# Altium schematic symbol library Molex FFC - FPC Connectors (Through-Hole).SchLib: 219 symbols (part 3 of 7)
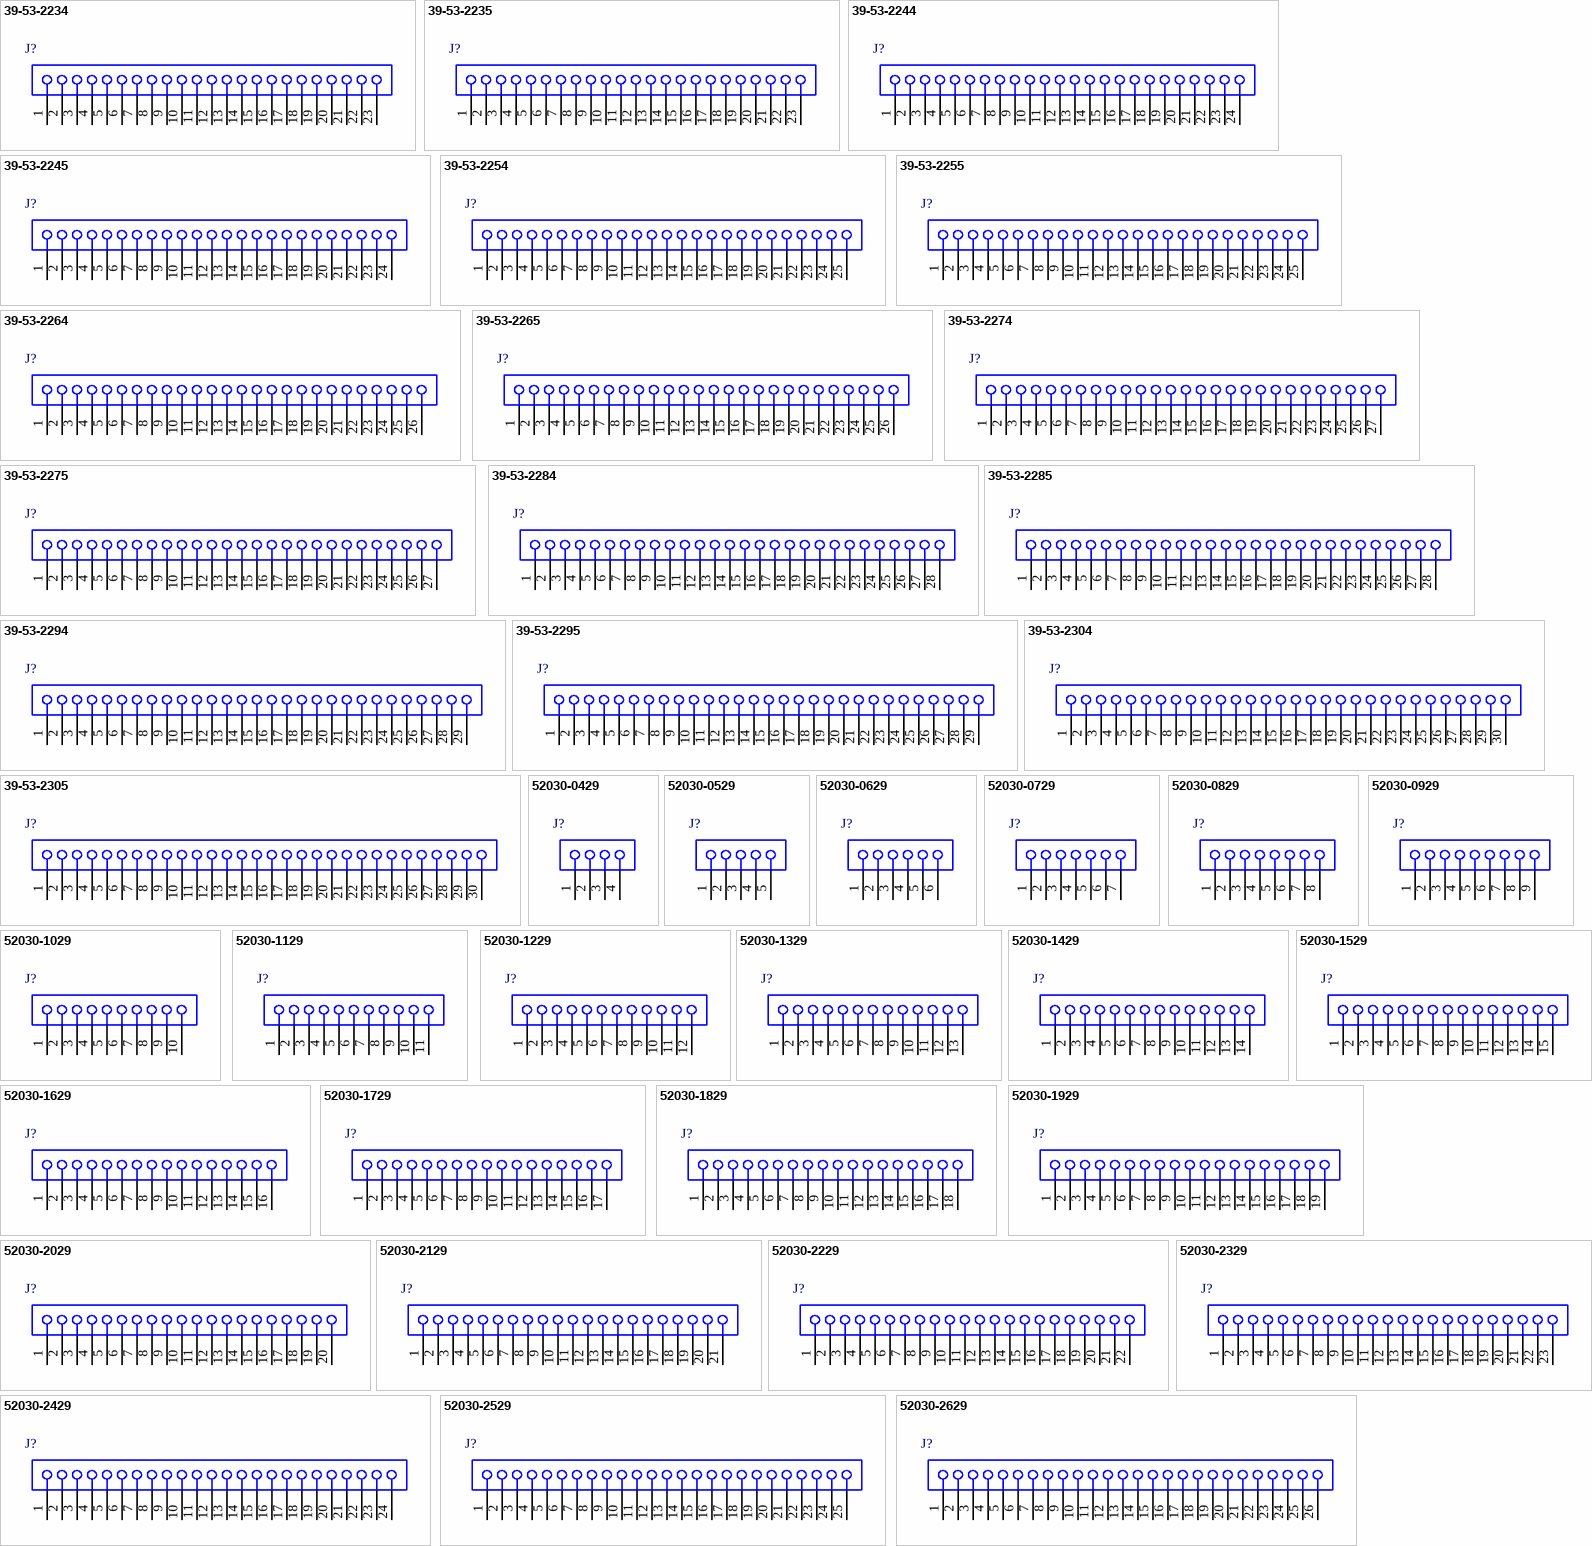
[diagram p7: symbols 39-53-2234 to 52030-2629]

## 52030-1929
designator J?
1.0 mm Pitch FPC Connector, 5.2 mm Mated Height, Vertical, ZIF, Through Hole, 19 Circuits, -20 to 80 degC, ELV and RoHS Compliant, Tray; Manufacturer: Molex; PartNumber: 52030-1929; Circuits (Loaded): 19; Current (Max per Contact): 1A; Durability (mating cycles max): 30; Mated Height: 5.20mm; Material - Metal: Phosphor Bronze; Material - Plating Mating: Tin-Bismuth; PCB Retention: Yes; Pitch - Mating Interface: 1.00mm; Polarized to PCB: No; Voltage (Max): 50V; PackageVersion: Rev. B, 10/2007; PackageReference: 52030-1929; PackageDescription: 19-Lead FPC Connector, Pitch 1.0 mm; Contact Position: N/A; Entry Angle: Vertical; Material - Plating Termination: Tin-Bismuth; Number of Rows: 1; Orientation: Vertical; Packing: Tray; RoHS: TRUE; Stackable: No; Mounting Technology: Through Hole; ComponentLink1Description: Manufacturer URL; ComponentLink1URL: http://www.molex.com/molex/index.jsp; ComponentLink2Description: Datasheet; ComponentLink2URL: http://www.molex.com/webdocs/datasheets/pdf/en-us/0520301929_FFC_FPC_CONNECTORS.pdf; ComponentLink3Description: Package Specification; ComponentLink3URL: http://www.molex.com/pdm_docs/sd/520301929_sd.pdf
footprint MOLX-52030-1929 (FPC Connector, 19-Leads, Vertical, Pitch 1.0 mm, Mated Height 5.2 mm, Through Hole)
pins: 1, 2, 3, 4, 5, 6, 7, 8, 9, 10, 11, 12, 13, 14, 15, 16, 17, 18, 19

## 52030-2029
designator J?
1.0 mm Pitch FPC Connector, 5.2 mm Mated Height, Vertical, ZIF, Through Hole, 20 Circuits, -20 to 80 degC, ELV and RoHS Compliant, Tray; Manufacturer: Molex; PartNumber: 52030-2029; Circuits (Loaded): 20; Current (Max per Contact): 1A; Durability (mating cycles max): 30; Mated Height: 5.20mm; Material - Metal: Phosphor Bronze; Material - Plating Mating: Tin-Bismuth; PCB Retention: Yes; Pitch - Mating Interface: 1.00mm; Polarized to PCB: No; Voltage (Max): 50V; PackageVersion: Rev. B, 10/2007; PackageReference: 52030-2029; PackageDescription: 20-Lead FPC Connector, Pitch 1.0 mm; Contact Position: N/A; Entry Angle: Vertical; Material - Plating Termination: Tin-Bismuth; Number of Rows: 1; Orientation: Vertical; Packing: Tray; RoHS: TRUE; Stackable: No; Mounting Technology: Through Hole; ComponentLink1Description: Manufacturer URL; ComponentLink1URL: http://www.molex.com/molex/index.jsp; ComponentLink2Description: Datasheet; ComponentLink2URL: http://www.molex.com/webdocs/datasheets/pdf/en-us/0520302029_FFC_FPC_CONNECTORS.pdf; ComponentLink3Description: Package Specification; ComponentLink3URL: http://www.molex.com/pdm_docs/sd/520302029_sd.pdf
footprint MOLX-52030-2029 (FPC Connector, 20-Leads, Vertical, Pitch 1.0 mm, Mated Height 5.2 mm, Through Hole)
pins: 1, 2, 3, 4, 5, 6, 7, 8, 9, 10, 11, 12, 13, 14, 15, 16, 17, 18, 19, 20

## 52030-2129
designator J?
1.0 mm Pitch FPC Connector, 5.2 mm Mated Height, Vertical, ZIF, Through Hole, 21 Circuits, -20 to 80 degC, ELV and RoHS Compliant, Tray; Manufacturer: Molex; PartNumber: 52030-2129; Circuits (Loaded): 21; Current (Max per Contact): 1A; Durability (mating cycles max): 30; Mated Height: 5.20mm; Material - Metal: Phosphor Bronze; Material - Plating Mating: Tin-Bismuth; PCB Retention: Yes; Pitch - Mating Interface: 1.00mm; Polarized to PCB: No; Voltage (Max): 50V; PackageVersion: Rev. B, 10/2007; PackageReference: 52030-2129; PackageDescription: 21-Lead FPC Connector, Pitch 1.0 mm; Contact Position: N/A; Entry Angle: Vertical; Material - Plating Termination: Tin-Bismuth; Number of Rows: 1; Orientation: Vertical; Packing: Tray; RoHS: TRUE; Stackable: No; Mounting Technology: Through Hole; ComponentLink1Description: Manufacturer URL; ComponentLink1URL: http://www.molex.com/molex/index.jsp; ComponentLink2Description: Datasheet; ComponentLink2URL: http://www.molex.com/webdocs/datasheets/pdf/en-us/0520302129_FFC_FPC_CONNECTORS.pdf; ComponentLink3Description: Package Specification; ComponentLink3URL: http://www.molex.com/pdm_docs/sd/520302129_sd.pdf
footprint MOLX-52030-2129 (FPC Connector, 21-Leads, Vertical, Pitch 1.0 mm, Mated Height 5.2 mm, Through Hole)
pins: 1, 2, 3, 4, 5, 6, 7, 8, 9, 10, 11, 12, 13, 14, 15, 16, 17, 18, 19, 20, 21

## 52030-2229
designator J?
1.0 mm Pitch FPC Connector, 5.2 mm Mated Height, Vertical, ZIF, Through Hole, 22 Circuits, -20 to 80 degC, ELV and RoHS Compliant, Tray; Manufacturer: Molex; PartNumber: 52030-2229; Circuits (Loaded): 22; Current (Max per Contact): 1A; Durability (mating cycles max): 30; Mated Height: 5.20mm; Material - Metal: Phosphor Bronze; Material - Plating Mating: Tin-Bismuth; PCB Retention: Yes; Pitch - Mating Interface: 1.00mm; Polarized to PCB: No; Voltage (Max): 50V; PackageVersion: Rev. B, 10/2007; PackageReference: 52030-2229; PackageDescription: 22-Lead FPC Connector, Pitch 1.0 mm; Contact Position: N/A; Entry Angle: Vertical; Material - Plating Termination: Tin-Bismuth; Number of Rows: 1; Orientation: Vertical; Packing: Tray; RoHS: TRUE; Stackable: No; Mounting Technology: Through Hole; ComponentLink1Description: Manufacturer URL; ComponentLink1URL: http://www.molex.com/molex/index.jsp; ComponentLink2Description: Datasheet; ComponentLink2URL: http://www.molex.com/webdocs/datasheets/pdf/en-us/0520302229_FFC_FPC_CONNECTORS.pdf; ComponentLink3Description: Package Specification; ComponentLink3URL: http://www.molex.com/pdm_docs/sd/520302229_sd.pdf
footprint MOLX-52030-2229 (FPC Connector, 22-Leads, Vertical, Pitch 1.0 mm, Mated Height 5.2 mm, Through Hole)
pins: 1, 2, 3, 4, 5, 6, 7, 8, 9, 10, 11, 12, 13, 14, 15, 16, 17, 18, 19, 20, 21, 22

## 52030-2329
designator J?
1.0 mm Pitch FPC Connector, 5.2 mm Mated Height, Vertical, ZIF, Through Hole, 23 Circuits, -20 to 80 degC, ELV and RoHS Compliant, Tray; Manufacturer: Molex; PartNumber: 52030-2329; Circuits (Loaded): 23; Current (Max per Contact): 1A; Durability (mating cycles max): 30; Mated Height: 5.20mm; Material - Metal: Phosphor Bronze; Material - Plating Mating: Tin-Bismuth; PCB Retention: Yes; Pitch - Mating Interface: 1.00mm; Polarized to PCB: No; Voltage (Max): 50V; PackageVersion: Rev. B, 10/2007; PackageReference: 52030-2329; PackageDescription: 23-Lead FPC Connector, Pitch 1.0 mm; Contact Position: N/A; Entry Angle: Vertical; Material - Plating Termination: Tin-Bismuth; Number of Rows: 1; Orientation: Vertical; Packing: Tray; RoHS: TRUE; Stackable: No; Mounting Technology: Through Hole; ComponentLink1Description: Manufacturer URL; ComponentLink1URL: http://www.molex.com/molex/index.jsp; ComponentLink2Description: Datasheet; ComponentLink2URL: http://www.molex.com/webdocs/datasheets/pdf/en-us/0520302329_FFC_FPC_CONNECTORS.pdf; ComponentLink3Description: Package Specification; ComponentLink3URL: http://www.molex.com/pdm_docs/sd/520302329_sd.pdf
footprint MOLX-52030-2329 (FPC Connector, 23-Leads, Vertical, Pitch 1.0 mm, Mated Height 5.2 mm, Through Hole)
pins: 1, 2, 3, 4, 5, 6, 7, 8, 9, 10, 11, 12, 13, 14, 15, 16, 17, 18, 19, 20, 21, 22, 23

## 52030-2429
designator J?
1.0 mm Pitch FPC Connector, 5.2 mm Mated Height, Vertical, ZIF, Through Hole, 24 Circuits, -20 to 80 degC, ELV and RoHS Compliant, Tray; Manufacturer: Molex; PartNumber: 52030-2429; Circuits (Loaded): 24; Current (Max per Contact): 1A; Durability (mating cycles max): 30; Mated Height: 5.20mm; Material - Metal: Phosphor Bronze; Material - Plating Mating: Tin-Bismuth; PCB Retention: Yes; Pitch - Mating Interface: 1.00mm; Polarized to PCB: No; Voltage (Max): 50V; PackageVersion: Rev. B, 10/2007; PackageReference: 52030-2429; PackageDescription: 24-Lead FPC Connector, Pitch 1.0 mm; Contact Position: N/A; Entry Angle: Vertical; Material - Plating Termination: Tin-Bismuth; Number of Rows: 1; Orientation: Vertical; Packing: Tray; RoHS: TRUE; Stackable: No; Mounting Technology: Through Hole; ComponentLink1Description: Manufacturer URL; ComponentLink1URL: http://www.molex.com/molex/index.jsp; ComponentLink2Description: Datasheet; ComponentLink2URL: http://www.molex.com/webdocs/datasheets/pdf/en-us/0520302429_FFC_FPC_CONNECTORS.pdf; ComponentLink3Description: Package Specification; ComponentLink3URL: http://www.molex.com/pdm_docs/sd/520302429_sd.pdf
footprint MOLX-52030-2429 (FPC Connector, 24-Leads, Vertical, Pitch 1.0 mm, Mated Height 5.2 mm, Through Hole)
pins: 1, 2, 3, 4, 5, 6, 7, 8, 9, 10, 11, 12, 13, 14, 15, 16, 17, 18, 19, 20, 21, 22, 23, 24

## 52030-2529
designator J?
1.0 mm Pitch FPC Connector, 5.2 mm Mated Height, Vertical, ZIF, Through Hole, 25 Circuits, -20 to 80 degC, ELV and RoHS Compliant, Tray; Manufacturer: Molex; PartNumber: 52030-2529; Circuits (Loaded): 25; Current (Max per Contact): 1A; Durability (mating cycles max): 30; Mated Height: 5.20mm; Material - Metal: Phosphor Bronze; Material - Plating Mating: Tin-Bismuth; PCB Retention: Yes; Pitch - Mating Interface: 1.00mm; Polarized to PCB: No; Voltage (Max): 50V; PackageVersion: Rev. B, 10/2007; PackageReference: 52030-2529; PackageDescription: 25-Lead FPC Connector, Pitch 1.0 mm; Contact Position: N/A; Entry Angle: Vertical; Material - Plating Termination: Tin-Bismuth; Number of Rows: 1; Orientation: Vertical; Packing: Tray; RoHS: TRUE; Stackable: No; Mounting Technology: Through Hole; ComponentLink1Description: Manufacturer URL; ComponentLink1URL: http://www.molex.com/molex/index.jsp; ComponentLink2Description: Datasheet; ComponentLink2URL: http://www.molex.com/webdocs/datasheets/pdf/en-us/0520302529_FFC_FPC_CONNECTORS.pdf; ComponentLink3Description: Package Specification; ComponentLink3URL: http://www.molex.com/pdm_docs/sd/520302529_sd.pdf
footprint MOLX-52030-2529 (FPC Connector, 25-Leads, Vertical, Pitch 1.0 mm, Mated Height 5.2 mm, Through Hole)
pins: 1, 2, 3, 4, 5, 6, 7, 8, 9, 10, 11, 12, 13, 14, 15, 16, 17, 18, 19, 20, 21, 22, 23, 24, 25

## 52030-2629
designator J?
1.0 mm Pitch FPC Connector, 5.2 mm Mated Height, Vertical, ZIF, Through Hole, 26 Circuits, -20 to 80 degC, ELV and RoHS Compliant, Tray; Manufacturer: Molex; PartNumber: 52030-2629; Circuits (Loaded): 26; Current (Max per Contact): 1A; Durability (mating cycles max): 30; Mated Height: 5.20mm; Material - Metal: Phosphor Bronze; Material - Plating Mating: Tin-Bismuth; PCB Retention: Yes; Pitch - Mating Interface: 1.00mm; Polarized to PCB: No; Voltage (Max): 50V; PackageVersion: Rev. B, 10/2007; PackageReference: 52030-2629; PackageDescription: 26-Lead FPC Connector, Pitch 1.0 mm; Contact Position: N/A; Entry Angle: Vertical; Material - Plating Termination: Tin-Bismuth; Number of Rows: 1; Orientation: Vertical; Packing: Tray; RoHS: TRUE; Stackable: No; Mounting Technology: Through Hole; ComponentLink1Description: Manufacturer URL; ComponentLink1URL: http://www.molex.com/molex/index.jsp; ComponentLink2Description: Datasheet; ComponentLink2URL: http://www.molex.com/webdocs/datasheets/pdf/en-us/0520302629_FFC_FPC_CONNECTORS.pdf; ComponentLink3Description: Package Specification; ComponentLink3URL: http://www.molex.com/pdm_docs/sd/520302629_sd.pdf
footprint MOLX-52030-2629 (FPC Connector, 26-Leads, Vertical, Pitch 1.0 mm, Mated Height 5.2 mm, Through Hole)
pins: 1, 2, 3, 4, 5, 6, 7, 8, 9, 10, 11, 12, 13, 14, 15, 16, 17, 18, 19, 20, 21, 22, 23, 24, 25, 26

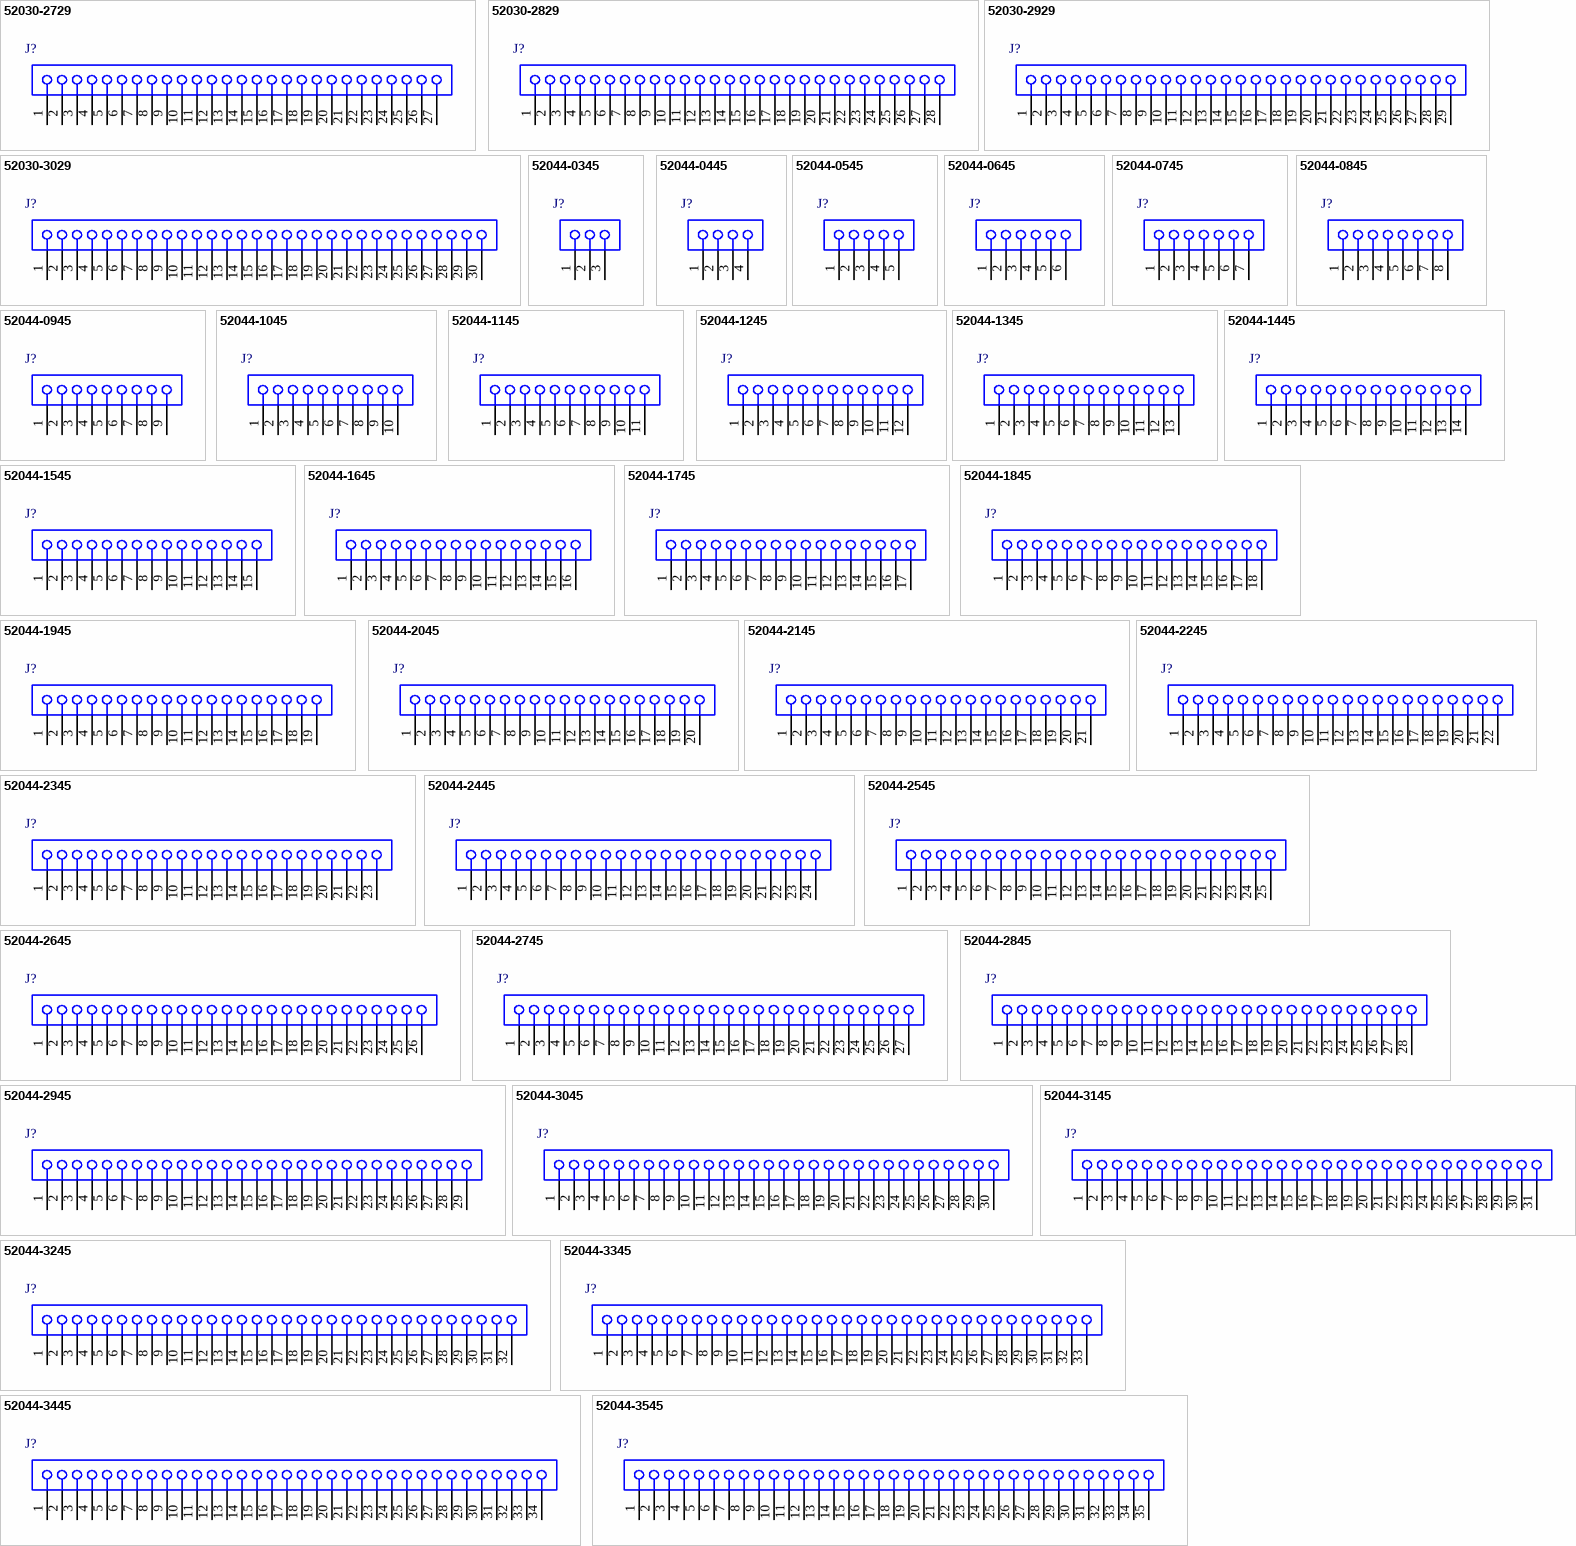
[diagram p2: symbols 52030-2729 to 52044-3545]

## 52030-2729
designator J?
1.0 mm Pitch FPC Connector, 5.2 mm Mated Height, Vertical, ZIF, Through Hole, 27 Circuits, -20 to 80 degC, ELV and RoHS Compliant, Tray; Manufacturer: Molex; PartNumber: 52030-2729; Circuits (Loaded): 27; Current (Max per Contact): 1A; Durability (mating cycles max): 30; Mated Height: 5.20mm; Material - Metal: Phosphor Bronze; Material - Plating Mating: Tin-Bismuth; PCB Retention: Yes; Pitch - Mating Interface: 1.00mm; Polarized to PCB: No; Voltage (Max): 50V; PackageVersion: Rev. B, 10/2007; PackageReference: 52030-2729; PackageDescription: 27-Lead FPC Connector, Pitch 1.0 mm; Contact Position: N/A; Entry Angle: Vertical; Material - Plating Termination: Tin-Bismuth; Number of Rows: 1; Orientation: Vertical; Packing: Tray; RoHS: TRUE; Stackable: No; Mounting Technology: Through Hole; ComponentLink1Description: Manufacturer URL; ComponentLink1URL: http://www.molex.com/molex/index.jsp; ComponentLink2Description: Datasheet; ComponentLink2URL: http://www.molex.com/webdocs/datasheets/pdf/en-us/0520302729_FFC_FPC_CONNECTORS.pdf; ComponentLink3Description: Package Specification; ComponentLink3URL: http://www.molex.com/pdm_docs/sd/520302729_sd.pdf
footprint MOLX-52030-2729 (FPC Connector, 27-Leads, Vertical, Pitch 1.0 mm, Mated Height 5.2 mm, Through Hole)
pins: 1, 2, 3, 4, 5, 6, 7, 8, 9, 10, 11, 12, 13, 14, 15, 16, 17, 18, 19, 20, 21, 22, 23, 24, 25, 26, 27

## 52030-2829
designator J?
1.0 mm Pitch FPC Connector, 5.2 mm Mated Height, Vertical, ZIF, Through Hole, 28 Circuits, -20 to 80 degC, ELV and RoHS Compliant, Tray; Manufacturer: Molex; PartNumber: 52030-2829; Circuits (Loaded): 28; Current (Max per Contact): 1A; Durability (mating cycles max): 30; Mated Height: 5.20mm; Material - Metal: Phosphor Bronze; Material - Plating Mating: Tin-Bismuth; PCB Retention: Yes; Pitch - Mating Interface: 1.00mm; Polarized to PCB: No; Voltage (Max): 50V; PackageVersion: Rev. B, 10/2007; PackageReference: 52030-2829; PackageDescription: 28-Lead FPC Connector, Pitch 1.0 mm; Contact Position: N/A; Entry Angle: Vertical; Material - Plating Termination: Tin-Bismuth; Number of Rows: 1; Orientation: Vertical; Packing: Tray; RoHS: TRUE; Stackable: No; Mounting Technology: Through Hole; ComponentLink1Description: Manufacturer URL; ComponentLink1URL: http://www.molex.com/molex/index.jsp; ComponentLink2Description: Datasheet; ComponentLink2URL: http://www.molex.com/webdocs/datasheets/pdf/en-us/0520302829_FFC_FPC_CONNECTORS.pdf; ComponentLink3Description: Package Specification; ComponentLink3URL: http://www.molex.com/pdm_docs/sd/520302829_sd.pdf
footprint MOLX-52030-2829 (FPC Connector, 28-Leads, Vertical, Pitch 1.0 mm, Mated Height 5.2 mm, Through Hole)
pins: 1, 2, 3, 4, 5, 6, 7, 8, 9, 10, 11, 12, 13, 14, 15, 16, 17, 18, 19, 20, 21, 22, 23, 24, 25, 26, 27, 28

## 52030-2929
designator J?
1.0 mm Pitch FPC Connector, 5.2 mm Mated Height, Vertical, ZIF, Through Hole, 29 Circuits, -20 to 80 degC, ELV and RoHS Compliant, Tray; Manufacturer: Molex; PartNumber: 52030-2929; Circuits (Loaded): 29; Current (Max per Contact): 1A; Durability (mating cycles max): 30; Mated Height: 5.20mm; Material - Metal: Phosphor Bronze; Material - Plating Mating: Tin-Bismuth; PCB Retention: Yes; Pitch - Mating Interface: 1.00mm; Polarized to PCB: No; Voltage (Max): 50V; PackageVersion: Rev. B, 10/2007; PackageReference: 52030-2929; PackageDescription: 29-Lead FPC Connector, Pitch 1.0 mm; Contact Position: N/A; Entry Angle: Vertical; Material - Plating Termination: Tin-Bismuth; Number of Rows: 1; Orientation: Vertical; Packing: Tray; RoHS: TRUE; Stackable: No; Mounting Technology: Through Hole; ComponentLink1Description: Manufacturer URL; ComponentLink1URL: http://www.molex.com/molex/index.jsp; ComponentLink2Description: Datasheet; ComponentLink2URL: http://www.molex.com/webdocs/datasheets/pdf/en-us/0520302929_FFC_FPC_CONNECTORS.pdf; ComponentLink3Description: Package Specification; ComponentLink3URL: http://www.molex.com/pdm_docs/sd/520302929_sd.pdf
footprint MOLX-52030-2929 (FPC Connector, 29-Leads, Vertical, Pitch 1.0 mm, Mated Height 5.2 mm, Through Hole)
pins: 1, 2, 3, 4, 5, 6, 7, 8, 9, 10, 11, 12, 13, 14, 15, 16, 17, 18, 19, 20, 21, 22, 23, 24, 25, 26, 27, 28, 29

## 52030-3029
designator J?
1.0 mm Pitch FPC Connector, 5.2 mm Mated Height, Vertical, ZIF, Through Hole, 30 Circuits, -20 to 80 degC, ELV and RoHS Compliant, Tray; Manufacturer: Molex; PartNumber: 52030-3029; Circuits (Loaded): 30; Current (Max per Contact): 1A; Mated Height: 5.20mm; Material - Metal: Phosphor Bronze; Material - Plating Mating: Tin-Bismuth; PCB Retention: Yes; Pitch - Mating Interface: 1.00mm; Polarized to PCB: No; Voltage (Max): 50V; PackageVersion: Rev. B, 10/2007; PackageReference: 52030-3029; PackageDescription: 30-Lead FPC Connector, Pitch 1.0 mm; Contact Position: N/A; Durability (mating cycles max): 30; Entry Angle: Vertical; Material - Plating Termination: Tin-Bismuth; Number of Rows: 1; Orientation: Vertical; Packing: Tray; RoHS: TRUE; Stackable: No; Mounting Technology: Through Hole; ComponentLink1Description: Manufacturer URL; ComponentLink1URL: http://www.molex.com/molex/index.jsp; ComponentLink2Description: Datasheet; ComponentLink2URL: http://www.molex.com/webdocs/datasheets/pdf/en-us/0520303029_FFC_FPC_CONNECTORS.pdf; ComponentLink3Description: Package Specification; ComponentLink3URL: http://www.molex.com/pdm_docs/sd/520303029_sd.pdf
footprint MOLX-52030-3029 (FPC Connector, 30-Leads, Vertical, Pitch 1.0 mm, Mated Height 5.2 mm, Through Hole)
pins: 1, 2, 3, 4, 5, 6, 7, 8, 9, 10, 11, 12, 13, 14, 15, 16, 17, 18, 19, 20, 21, 22, 23, 24, 25, 26, 27, 28, 29, 30

## 52044-0345
designator J?
1.25 mm Pitch FFC Connector, 5.1 mm Mated Height, Right Angle, Non-ZIF, Through Hole, Top Contact, 3 Circuits, -40 to 85 degC, ELV and RoHS Compliant, Tray; Manufacturer: Molex; PartNumber: 52044-0345; Circuits (Loaded): 3; Current (Max per Contact): 0.5A, 1A; Entry Angle: 90degrees Angle; Mated Height: 5.10mm; PCB Retention: None; Pitch - Mating Interface: 1.25mm; Polarized to PCB: Yes; Stackable: No; Voltage (Max): 200V; PackageVersion: Rev. C, 10/2002; PackageReference: 52044-0345; PackageDescription: 3-Lead FFC Connector, Pitch 1.25 mm; Contact Position: Top; Number of Rows: 1; Orientation: Right Angle; Packing: Tray; RoHS: TRUE; Mounting Technology: Through Hole; ComponentLink1Description: Manufacturer URL; ComponentLink1URL: http://www.molex.com/molex/index.jsp; ComponentLink2Description: Datasheet; ComponentLink2URL: http://www.molex.com/webdocs/datasheets/pdf/en-us/0520440345_FFC_FPC_CONNECTORS.pdf; ComponentLink3Description: Package Specification; ComponentLink3URL: http://www.molex.com/pdm_docs/sd/520440345_sd.pdf
footprint MOLX-52044-0345 (FFC Connector, 3-Leads, Right Angle, Pitch 1.25 mm, Mated Height 5.1 mm, Through Hole)
pins: 1, 2, 3

## 52044-0445
designator J?
1.25 mm Pitch FFC Connector, 5.1 mm Mated Height, Right Angle, Non-ZIF, Through Hole, Top Contact, 4 Circuits, -40 to 85 degC, ELV and RoHS Compliant, Tray; Manufacturer: Molex; PartNumber: 52044-0445; Circuits (Loaded): 4; Current (Max per Contact): 0.5A, 1A; Entry Angle: 90degrees Angle; Mated Height: 5.10mm; PCB Retention: None; Pitch - Mating Interface: 1.25mm; Polarized to PCB: Yes; Stackable: No; Voltage (Max): 200V; PackageVersion: Rev. C, 10/2002; PackageReference: 52044-0445; PackageDescription: 4-Lead FFC Connector, Pitch 1.25 mm; Contact Position: Top; Number of Rows: 1; Orientation: Right Angle; Packing: Tray; RoHS: TRUE; Mounting Technology: Through Hole; ComponentLink1Description: Manufacturer URL; ComponentLink1URL: http://www.molex.com/molex/index.jsp; ComponentLink2Description: Datasheet; ComponentLink2URL: http://www.molex.com/webdocs/datasheets/pdf/en-us/0520440445_FFC_FPC_CONNECTORS.pdf; ComponentLink3Description: Package Specification; ComponentLink3URL: http://www.molex.com/pdm_docs/sd/520440445_sd.pdf
footprint MOLX-52044-0445 (FFC Connector, 4-Leads, Right Angle, Pitch 1.25 mm, Mated Height 5.1 mm, Through Hole)
pins: 1, 2, 3, 4

## 52044-0545
designator J?
1.25 mm Pitch FFC Connector, 5.1 mm Mated Height, Right Angle, Non-ZIF, Through Hole, Top Contact, 5 Circuits, -40 to 85 degC, ELV and RoHS Compliant, Tray; Manufacturer: Molex; PartNumber: 52044-0545; Circuits (Loaded): 5; Current (Max per Contact): 0.5A, 1A; Entry Angle: 90degrees Angle; Mated Height: 5.10mm; PCB Retention: None; Pitch - Mating Interface: 1.25mm; Polarized to PCB: Yes; Stackable: No; Voltage (Max): 200V; PackageVersion: Rev. C, 10/2002; PackageReference: 52044-0545; PackageDescription: 5-Lead FFC Connector, Pitch 1.25 mm; Contact Position: Top; Number of Rows: 1; Orientation: Right Angle; Packing: Tray; RoHS: TRUE; Mounting Technology: Through Hole; ComponentLink1Description: Manufacturer URL; ComponentLink1URL: http://www.molex.com/molex/index.jsp; ComponentLink2Description: Datasheet; ComponentLink2URL: http://www.molex.com/webdocs/datasheets/pdf/en-us/0520440545_FFC_FPC_CONNECTORS.pdf; ComponentLink3Description: Package Specification; ComponentLink3URL: http://www.molex.com/pdm_docs/sd/520440545_sd.pdf
footprint MOLX-52044-0545 (FFC Connector, 5-Leads, Right Angle, Pitch 1.25 mm, Mated Height 5.1 mm, Through Hole)
pins: 1, 2, 3, 4, 5

## 52044-0645
designator J?
1.25 mm Pitch FFC Connector, 5.1 mm Mated Height, Right Angle, Non-ZIF, Through Hole, Top Contact, 6 Circuits, -40 to 85 degC, ELV and RoHS Compliant, Tray; Manufacturer: Molex; PartNumber: 52044-0645; Circuits (Loaded): 6; Current (Max per Contact): 0.5A, 1A; Entry Angle: 90degrees Angle; Mated Height: 5.10mm; PCB Retention: None; Pitch - Mating Interface: 1.25mm; Polarized to PCB: Yes; Stackable: No; Voltage (Max): 200V; PackageVersion: Rev. C, 10/2002; PackageReference: 52044-0645; PackageDescription: 6-Lead FFC Connector, Pitch 1.25 mm; Contact Position: Top; Number of Rows: 1; Orientation: Right Angle; Packing: Tray; RoHS: TRUE; Mounting Technology: Through Hole; ComponentLink1Description: Manufacturer URL; ComponentLink1URL: http://www.molex.com/molex/index.jsp; ComponentLink2Description: Datasheet; ComponentLink2URL: http://www.molex.com/webdocs/datasheets/pdf/en-us/0520440645_FFC_FPC_CONNECTORS.pdf; ComponentLink3Description: Package Specification; ComponentLink3URL: http://www.molex.com/pdm_docs/sd/520440645_sd.pdf
footprint MOLX-52044-0645 (FFC Connector, 6-Leads, Right Angle, Pitch 1.25 mm, Mated Height 5.1 mm, Through Hole)
pins: 1, 2, 3, 4, 5, 6

## 52044-0745
designator J?
1.25 mm Pitch FFC Connector, 5.1 mm Mated Height, Right Angle, Non-ZIF, Through Hole, Top Contact, 7 Circuits, -40 to 85 degC, ELV and RoHS Compliant, Tray; Manufacturer: Molex; PartNumber: 52044-0745; Circuits (Loaded): 7; Current (Max per Contact): 0.5A, 1A; Entry Angle: 90degrees Angle; Mated Height: 5.10mm; PCB Retention: None; Pitch - Mating Interface: 1.25mm; Polarized to PCB: Yes; Stackable: No; Voltage (Max): 200V; PackageVersion: Rev. C, 10/2002; PackageReference: 52044-0745; PackageDescription: 7-Lead FFC Connector, Pitch 1.25 mm; Contact Position: Top; Number of Rows: 1; Orientation: Right Angle; Packing: Tray; RoHS: TRUE; Mounting Technology: Through Hole; ComponentLink1Description: Manufacturer URL; ComponentLink1URL: http://www.molex.com/molex/index.jsp; ComponentLink2Description: Datasheet; ComponentLink2URL: http://www.molex.com/webdocs/datasheets/pdf/en-us/0520440745_FFC_FPC_CONNECTORS.pdf; ComponentLink3Description: Package Specification; ComponentLink3URL: http://www.molex.com/pdm_docs/sd/520440745_sd.pdf
footprint MOLX-52044-0745 (FFC Connector, 7-Leads, Right Angle, Pitch 1.25 mm, Mated Height 5.1 mm, Through Hole)
pins: 1, 2, 3, 4, 5, 6, 7

## 52044-0845
designator J?
1.25 mm Pitch FFC Connector, 5.1 mm Mated Height, Right Angle, Non-ZIF, Through Hole, Top Contact, 8 Circuits, -40 to 85 degC, ELV and RoHS Compliant, Tray; Manufacturer: Molex; PartNumber: 52044-0845; Circuits (Loaded): 8; Current (Max per Contact): 0.5A, 1A; Entry Angle: 90degrees Angle; Mated Height: 5.10mm; PCB Retention: None; Pitch - Mating Interface: 1.25mm; Polarized to PCB: Yes; Stackable: No; Voltage (Max): 200V; PackageVersion: Rev. C, 10/2002; PackageReference: 52044-0845; PackageDescription: 8-Lead FFC Connector, Pitch 1.25 mm; Contact Position: Top; Number of Rows: 1; Orientation: Right Angle; Packing: Tray; RoHS: TRUE; Mounting Technology: Through Hole; ComponentLink1Description: Manufacturer URL; ComponentLink1URL: http://www.molex.com/molex/index.jsp; ComponentLink2Description: Datasheet; ComponentLink2URL: http://www.molex.com/webdocs/datasheets/pdf/en-us/0520440845_FFC_FPC_CONNECTORS.pdf; ComponentLink3Description: Package Specification; ComponentLink3URL: http://www.molex.com/pdm_docs/sd/520440845_sd.pdf
footprint MOLX-52044-0845 (FFC Connector, 8-Leads, Right Angle, Pitch 1.25 mm, Mated Height 5.1 mm, Through Hole)
pins: 1, 2, 3, 4, 5, 6, 7, 8

## 52044-0945
designator J?
1.25 mm Pitch FFC Connector, 5.1 mm Mated Height, Right Angle, Non-ZIF, Through Hole, Top Contact, 9 Circuits, -40 to 85 degC, ELV and RoHS Compliant, Tray; Manufacturer: Molex; PartNumber: 52044-0945; Circuits (Loaded): 9; Current (Max per Contact): 0.5A, 1A; Entry Angle: 90degrees Angle; Mated Height: 5.10mm; PCB Retention: None; Pitch - Mating Interface: 1.25mm; Polarized to PCB: Yes; Stackable: No; Voltage (Max): 200V; PackageVersion: Rev. C, 10/2002; PackageReference: 52044-0945; PackageDescription: 9-Lead FFC Connector, Pitch 1.25 mm; Contact Position: Top; Number of Rows: 1; Orientation: Right Angle; Packing: Tray; RoHS: TRUE; Mounting Technology: Through Hole; ComponentLink1Description: Manufacturer URL; ComponentLink1URL: http://www.molex.com/molex/index.jsp; ComponentLink2Description: Datasheet; ComponentLink2URL: http://www.molex.com/webdocs/datasheets/pdf/en-us/0520440945_FFC_FPC_CONNECTORS.pdf; ComponentLink3Description: Package Specification; ComponentLink3URL: http://www.molex.com/pdm_docs/sd/520440945_sd.pdf
footprint MOLX-52044-0945 (FFC Connector, 9-Leads, Right Angle, Pitch 1.25 mm, Mated Height 5.1 mm, Through Hole)
pins: 1, 2, 3, 4, 5, 6, 7, 8, 9

## 52044-1045
designator J?
1.25 mm Pitch FFC Connector, 5.1 mm Mated Height, Right Angle, Non-ZIF, Through Hole, Top Contact, 10 Circuits, -40 to 85 degC, ELV and RoHS Compliant, Tray; Manufacturer: Molex; PartNumber: 52044-1045; Circuits (Loaded): 10; Current (Max per Contact): 0.5A, 1A; Entry Angle: 90degrees Angle; Mated Height: 5.10mm; Material - Metal: Phosphor Bronze; Material - Plating Mating: Tin; PCB Retention: None; Pitch - Mating Interface: 1.25mm; Polarized to PCB: Yes; Stackable: No; Voltage (Max): 200V; PackageVersion: Rev. C, 10/2002; PackageReference: 52044-1045; PackageDescription: 10-Lead FFC Connector, Pitch 1.25 mm; Contact Position: Top; Material - Plating Termination: Tin; Number of Rows: 1; Orientation: Right Angle; Packing: Tray; RoHS: TRUE; Mounting Technology: Through Hole; ComponentLink1Description: Manufacturer URL; ComponentLink1URL: http://www.molex.com/molex/index.jsp; ComponentLink2Description: Datasheet; ComponentLink2URL: http://www.molex.com/webdocs/datasheets/pdf/en-us/0520441045_FFC_FPC_CONNECTORS.pdf; ComponentLink3Description: Package Specification; ComponentLink3URL: http://www.molex.com/pdm_docs/sd/520441045_sd.pdf
footprint MOLX-52044-1045 (FFC Connector, 10-Leads, Right Angle, Pitch 1.25 mm, Mated Height 5.1 mm, Through Hole)
pins: 1, 2, 3, 4, 5, 6, 7, 8, 9, 10

## 52044-1145
designator J?
1.25 mm Pitch FFC Connector, 5.1 mm Mated Height, Right Angle, Non-ZIF, Through Hole, Top Contact, 11 Circuits, -40 to 85 degC, ELV and RoHS Compliant, Tray; Manufacturer: Molex; PartNumber: 52044-1145; Circuits (Loaded): 11; Current (Max per Contact): 0.5A, 1A; Entry Angle: 90degrees Angle; Mated Height: 5.10mm; Material - Metal: Phosphor Bronze; Material - Plating Mating: Tin; PCB Retention: None; Pitch - Mating Interface: 1.25mm; Polarized to PCB: Yes; Stackable: No; Voltage (Max): 200V; PackageVersion: Rev. C, 10/2002; PackageReference: 52044-1145; PackageDescription: 11-Lead FFC Connector, Pitch 1.25 mm; Contact Position: Top; Material - Plating Termination: Tin; Number of Rows: 1; Orientation: Right Angle; Packing: Tray; RoHS: TRUE; Mounting Technology: Through Hole; ComponentLink1Description: Manufacturer URL; ComponentLink1URL: http://www.molex.com/molex/index.jsp; ComponentLink2Description: Datasheet; ComponentLink2URL: http://www.molex.com/webdocs/datasheets/pdf/en-us/0520441145_FFC_FPC_CONNECTORS.pdf; ComponentLink3Description: Package Specification; ComponentLink3URL: http://www.molex.com/pdm_docs/sd/520441145_sd.pdf
footprint MOLX-52044-1145 (FFC Connector, 11-Leads, Right Angle, Pitch 1.25 mm, Mated Height 5.1 mm, Through Hole)
pins: 1, 2, 3, 4, 5, 6, 7, 8, 9, 10, 11

## 52044-1245
designator J?
1.25 mm Pitch FFC Connector, 5.1 mm Mated Height, Right Angle, Non-ZIF, Through Hole, Top Contact, 12 Circuits, -40 to 85 degC, ELV and RoHS Compliant, Tray; Manufacturer: Molex; PartNumber: 52044-1245; Circuits (Loaded): 12; Current (Max per Contact): 0.5A, 1A; Entry Angle: 90degrees Angle; Mated Height: 5.10mm; PCB Retention: None; Pitch - Mating Interface: 1.25mm; Polarized to PCB: Yes; Stackable: No; Voltage (Max): 200V; PackageVersion: Rev. C, 10/2002; PackageReference: 52044-1245; PackageDescription: 12-Lead FFC Connector, Pitch 1.25 mm; Contact Position: Top; Number of Rows: 1; Orientation: Right Angle; Packing: Tray; RoHS: TRUE; Mounting Technology: Through Hole; ComponentLink1Description: Manufacturer URL; ComponentLink1URL: http://www.molex.com/molex/index.jsp; ComponentLink2Description: Datasheet; ComponentLink2URL: http://www.molex.com/webdocs/datasheets/pdf/en-us/0520441245_FFC_FPC_CONNECTORS.pdf; ComponentLink3Description: Package Specification; ComponentLink3URL: http://www.molex.com/pdm_docs/sd/520441245_sd.pdf
footprint MOLX-52044-1245 (FFC Connector, 12-Leads, Right Angle, Pitch 1.25 mm, Mated Height 5.1 mm, Through Hole)
pins: 1, 2, 3, 4, 5, 6, 7, 8, 9, 10, 11, 12

## 52044-1345
designator J?
1.25 mm Pitch FFC Connector, 5.1 mm Mated Height, Right Angle, Non-ZIF, Through Hole, Top Contact, 13 Circuits, -40 to 85 degC, ELV and RoHS Compliant, Tray; Manufacturer: Molex; PartNumber: 52044-1345; Circuits (Loaded): 13; Current (Max per Contact): 0.5A, 1A; Entry Angle: 90degrees Angle; Mated Height: 5.10mm; PCB Retention: None; Pitch - Mating Interface: 1.25mm; Polarized to PCB: Yes; Stackable: No; Voltage (Max): 200V; PackageVersion: Rev. C, 10/2002; PackageReference: 52044-1345; PackageDescription: 13-Lead FFC Connector, Pitch 1.25 mm; Contact Position: Top; Number of Rows: 1; Orientation: Right Angle; Packing: Tray; RoHS: TRUE; Mounting Technology: Through Hole; ComponentLink1Description: Manufacturer URL; ComponentLink1URL: http://www.molex.com/molex/index.jsp; ComponentLink2Description: Datasheet; ComponentLink2URL: http://www.molex.com/webdocs/datasheets/pdf/en-us/0520441345_FFC_FPC_CONNECTORS.pdf; ComponentLink3Description: Package Specification; ComponentLink3URL: http://www.molex.com/pdm_docs/sd/520441345_sd.pdf
footprint MOLX-52044-1345 (FFC Connector, 13-Leads, Right Angle, Pitch 1.25 mm, Mated Height 5.1 mm, Through Hole)
pins: 1, 2, 3, 4, 5, 6, 7, 8, 9, 10, 11, 12, 13

## 52044-1445
designator J?
1.25 mm Pitch FFC Connector, 5.1 mm Mated Height, Right Angle, Non-ZIF, Through Hole, Top Contact, 14 Circuits, -40 to 85 degC, ELV and RoHS Compliant, Tray; Manufacturer: Molex; PartNumber: 52044-1445; Circuits (Loaded): 14; Current (Max per Contact): 0.5A, 1A; Entry Angle: 90degrees Angle; Mated Height: 5.10mm; PCB Retention: None; Pitch - Mating Interface: 1.25mm; Polarized to PCB: Yes; Stackable: No; Voltage (Max): 200V; PackageVersion: Rev. C, 10/2002; PackageReference: 52044-1445; PackageDescription: 14-Lead FFC Connector, Pitch 1.25 mm; Contact Position: Top; Number of Rows: 1; Orientation: Right Angle; Packing: Tray; RoHS: TRUE; Mounting Technology: Through Hole; ComponentLink1Description: Manufacturer URL; ComponentLink1URL: http://www.molex.com/molex/index.jsp; ComponentLink2Description: Datasheet; ComponentLink2URL: http://www.molex.com/webdocs/datasheets/pdf/en-us/0520441445_FFC_FPC_CONNECTORS.pdf; ComponentLink3Description: Package Specification; ComponentLink3URL: http://www.molex.com/pdm_docs/sd/520441445_sd.pdf
footprint MOLX-52044-1445 (FFC Connector, 14-Leads, Right Angle, Pitch 1.25 mm, Mated Height 5.1 mm, Through Hole)
pins: 1, 2, 3, 4, 5, 6, 7, 8, 9, 10, 11, 12, 13, 14

## 52044-1545
designator J?
1.25 mm Pitch FFC Connector, 5.1 mm Mated Height, Right Angle, Non-ZIF, Through Hole, Top Contact, 15 Circuits, -40 to 85 degC, ELV and RoHS Compliant, Tray; Manufacturer: Molex; PartNumber: 52044-1545; Circuits (Loaded): 15; Current (Max per Contact): 0.5A, 1A; Entry Angle: 90degrees Angle; Mated Height: 5.10mm; PCB Retention: None; Pitch - Mating Interface: 1.25mm; Polarized to PCB: Yes; Stackable: No; Voltage (Max): 200V; PackageVersion: Rev. C, 10/2002; PackageReference: 52044-1545; PackageDescription: 15-Lead FFC Connector, Pitch 1.25 mm; Contact Position: Top; Number of Rows: 1; Orientation: Right Angle; Packing: Tray; RoHS: TRUE; Mounting Technology: Through Hole; ComponentLink1Description: Manufacturer URL; ComponentLink1URL: http://www.molex.com/molex/index.jsp; ComponentLink2Description: Datasheet; ComponentLink2URL: http://www.molex.com/webdocs/datasheets/pdf/en-us/0520441545_FFC_FPC_CONNECTORS.pdf; ComponentLink3Description: Package Specification; ComponentLink3URL: http://www.molex.com/pdm_docs/sd/520441545_sd.pdf
footprint MOLX-52044-1545 (FFC Connector, 15-Leads, Right Angle, Pitch 1.25 mm, Mated Height 5.1 mm, Through Hole)
pins: 1, 2, 3, 4, 5, 6, 7, 8, 9, 10, 11, 12, 13, 14, 15

## 52044-1645
designator J?
1.25 mm Pitch FFC Connector, 5.1 mm Mated Height, Right Angle, Non-ZIF, Through Hole, Top Contact, 16 Circuits, -40 to 85 degC, ELV and RoHS Compliant, Tray; Manufacturer: Molex; PartNumber: 52044-1645; Circuits (Loaded): 16; Current (Max per Contact): 0.5A, 1A; Entry Angle: 90degrees Angle; Mated Height: 5.10mm; PCB Retention: None; Pitch - Mating Interface: 1.25mm; Polarized to PCB: Yes; Stackable: No; Voltage (Max): 200V; PackageVersion: Rev. C, 10/2002; PackageReference: 52044-1645; PackageDescription: 16-Lead FFC Connector, Pitch 1.25 mm; Contact Position: Top; Number of Rows: 1; Orientation: Right Angle; Packing: Tray; RoHS: TRUE; Mounting Technology: Through Hole; ComponentLink1Description: Manufacturer URL; ComponentLink1URL: http://www.molex.com/molex/index.jsp; ComponentLink2Description: Datasheet; ComponentLink2URL: http://www.molex.com/webdocs/datasheets/pdf/en-us/0520441645_FFC_FPC_CONNECTORS.pdf; ComponentLink3Description: Package Specification; ComponentLink3URL: http://www.molex.com/pdm_docs/sd/520441645_sd.pdf
footprint MOLX-52044-1645 (FFC Connector, 16-Leads, Right Angle, Pitch 1.25 mm, Mated Height 5.1 mm, Through Hole)
pins: 1, 2, 3, 4, 5, 6, 7, 8, 9, 10, 11, 12, 13, 14, 15, 16

## 52044-1745
designator J?
1.25 mm Pitch FFC Connector, 5.1 mm Mated Height, Right Angle, Non-ZIF, Through Hole, Top Contact, 17 Circuits, -40 to 85 degC, ELV and RoHS Compliant, Tray; Manufacturer: Molex; PartNumber: 52044-1745; Circuits (Loaded): 17; Current (Max per Contact): 0.5A, 1A; Entry Angle: 90degrees Angle; Mated Height: 5.10mm; PCB Retention: None; Pitch - Mating Interface: 1.25mm; Polarized to PCB: Yes; Stackable: No; Voltage (Max): 200V; PackageVersion: Rev. C, 10/2002; PackageReference: 52044-1745; PackageDescription: 17-Lead FFC Connector, Pitch 1.25 mm; Contact Position: Top; Number of Rows: 1; Orientation: Right Angle; Packing: Tray; RoHS: TRUE; Mounting Technology: Through Hole; ComponentLink1Description: Manufacturer URL; ComponentLink1URL: http://www.molex.com/molex/index.jsp; ComponentLink2Description: Datasheet; ComponentLink2URL: http://www.molex.com/webdocs/datasheets/pdf/en-us/0520441745_FFC_FPC_CONNECTORS.pdf; ComponentLink3Description: Package Specification; ComponentLink3URL: http://www.molex.com/pdm_docs/sd/520441745_sd.pdf
footprint MOLX-52044-1745 (FFC Connector, 17-Leads, Right Angle, Pitch 1.25 mm, Mated Height 5.1 mm, Through Hole)
pins: 1, 2, 3, 4, 5, 6, 7, 8, 9, 10, 11, 12, 13, 14, 15, 16, 17

## 52044-1845
designator J?
1.25 mm Pitch FFC Connector, 5.1 mm Mated Height, Right Angle, Non-ZIF, Through Hole, Top Contact, 18 Circuits, -40 to 85 degC, ELV and RoHS Compliant, Tray; Manufacturer: Molex; PartNumber: 52044-1845; Circuits (Loaded): 18; Current (Max per Contact): 0.5A, 1A; Entry Angle: 90degrees Angle; Mated Height: 5.10mm; PCB Retention: None; Pitch - Mating Interface: 1.25mm; Polarized to PCB: Yes; Stackable: No; Voltage (Max): 200V; PackageVersion: Rev. C, 10/2002; PackageReference: 52044-1845; PackageDescription: 18-Lead FFC Connector, Pitch 1.25 mm; Contact Position: Top; Number of Rows: 1; Orientation: Right Angle; Packing: Tray; RoHS: TRUE; Mounting Technology: Through Hole; ComponentLink1Description: Manufacturer URL; ComponentLink1URL: http://www.molex.com/molex/index.jsp; ComponentLink2Description: Datasheet; ComponentLink2URL: http://www.molex.com/webdocs/datasheets/pdf/en-us/0520441845_FFC_FPC_CONNECTORS.pdf; ComponentLink3Description: Package Specification; ComponentLink3URL: http://www.molex.com/pdm_docs/sd/520441845_sd.pdf
footprint MOLX-52044-1845 (FFC Connector, 18-Leads, Right Angle, Pitch 1.25 mm, Mated Height 5.1 mm, Through Hole)
pins: 1, 2, 3, 4, 5, 6, 7, 8, 9, 10, 11, 12, 13, 14, 15, 16, 17, 18

## 52044-1945
designator J?
1.25 mm Pitch FFC Connector, 5.1 mm Mated Height, Right Angle, Non-ZIF, Through Hole, Top Contact, 19 Circuits, -40 to 85 degC, ELV and RoHS Compliant, Tray; Manufacturer: Molex; PartNumber: 52044-1945; Circuits (Loaded): 19; Current (Max per Contact): 0.5A, 1A; Entry Angle: 90degrees Angle; Mated Height: 5.10mm; PCB Retention: None; Pitch - Mating Interface: 1.25mm; Polarized to PCB: Yes; Stackable: No; Voltage (Max): 200V; PackageVersion: Rev. C, 10/2002; PackageReference: 52044-1945; PackageDescription: 19-Lead FFC Connector, Pitch 1.25 mm; Contact Position: Top; Number of Rows: 1; Orientation: Right Angle; Packing: Tray; RoHS: TRUE; Mounting Technology: Through Hole; ComponentLink1Description: Manufacturer URL; ComponentLink1URL: http://www.molex.com/molex/index.jsp; ComponentLink2Description: Datasheet; ComponentLink2URL: http://www.molex.com/webdocs/datasheets/pdf/en-us/0520441945_FFC_FPC_CONNECTORS.pdf; ComponentLink3Description: Package Specification; ComponentLink3URL: http://www.molex.com/pdm_docs/sd/520441945_sd.pdf
footprint MOLX-52044-1945 (FFC Connector, 19-Leads, Right Angle, Pitch 1.25 mm, Mated Height 5.1 mm, Through Hole)
pins: 1, 2, 3, 4, 5, 6, 7, 8, 9, 10, 11, 12, 13, 14, 15, 16, 17, 18, 19

## 52044-2045
designator J?
1.25 mm Pitch FFC Connector, 5.1 mm Mated Height, Right Angle, Non-ZIF, Through Hole, Top Contact, 20 Circuits, -40 to 85 degC, ELV and RoHS Compliant, Tray; Manufacturer: Molex; PartNumber: 52044-2045; Circuits (Loaded): 20; Current (Max per Contact): 0.5A, 1A; Entry Angle: 90degrees Angle; Mated Height: 5.10mm; PCB Retention: None; Pitch - Mating Interface: 1.25mm; Polarized to PCB: Yes; Stackable: No; Voltage (Max): 200V; PackageVersion: Rev. C, 10/2002; PackageReference: 52044-2045; PackageDescription: 20-Lead FFC Connector, Pitch 1.25 mm; Contact Position: Top; Number of Rows: 1; Orientation: Right Angle; Packing: Tray; RoHS: TRUE; Mounting Technology: Through Hole; ComponentLink1Description: Manufacturer URL; ComponentLink1URL: http://www.molex.com/molex/index.jsp; ComponentLink2Description: Datasheet; ComponentLink2URL: http://www.molex.com/webdocs/datasheets/pdf/en-us/0520442045_FFC_FPC_CONNECTORS.pdf; ComponentLink3Description: Package Specification; ComponentLink3URL: http://www.molex.com/pdm_docs/sd/520442045_sd.pdf
footprint MOLX-52044-2045 (FFC Connector, 20-Leads, Right Angle, Pitch 1.25 mm, Mated Height 5.1 mm, Through Hole)
pins: 1, 2, 3, 4, 5, 6, 7, 8, 9, 10, 11, 12, 13, 14, 15, 16, 17, 18, 19, 20

## 52044-2145
designator J?
1.25 mm Pitch FFC Connector, 5.1 mm Mated Height, Right Angle, Non-ZIF, Through Hole, Top Contact, 21 Circuits, -40 to 85 degC, ELV and RoHS Compliant, Tray; Manufacturer: Molex; PartNumber: 52044-2145; Circuits (Loaded): 21; Current (Max per Contact): 0.5A, 1A; Entry Angle: 90degrees Angle; Mated Height: 5.10mm; PCB Retention: None; Pitch - Mating Interface: 1.25mm; Polarized to PCB: Yes; Stackable: No; Voltage (Max): 200V; PackageVersion: Rev. C, 10/2002; PackageReference: 52044-2145; PackageDescription: 21-Lead FFC Connector, Pitch 1.25 mm; Contact Position: Top; Number of Rows: 1; Orientation: Right Angle; Packing: Tray; RoHS: TRUE; Mounting Technology: Through Hole; ComponentLink1Description: Manufacturer URL; ComponentLink1URL: http://www.molex.com/molex/index.jsp; ComponentLink2Description: Datasheet; ComponentLink2URL: http://www.molex.com/webdocs/datasheets/pdf/en-us/0520442145_FFC_FPC_CONNECTORS.pdf; ComponentLink3Description: Package Specification; ComponentLink3URL: http://www.molex.com/pdm_docs/sd/520442145_sd.pdf
footprint MOLX-52044-2145 (FFC Connector, 21-Leads, Right Angle, Pitch 1.25 mm, Mated Height 5.1 mm, Through Hole)
pins: 1, 2, 3, 4, 5, 6, 7, 8, 9, 10, 11, 12, 13, 14, 15, 16, 17, 18, 19, 20, 21

## 52044-2245
designator J?
1.25 mm Pitch FFC Connector, 5.1 mm Mated Height, Right Angle, Non-ZIF, Through Hole, Top Contact, 22 Circuits, -40 to 85 degC, ELV and RoHS Compliant, Tray; Manufacturer: Molex; PartNumber: 52044-2245; Circuits (Loaded): 22; Current (Max per Contact): 0.5A, 1A; Entry Angle: 90degrees Angle; Mated Height: 5.10mm; PCB Retention: None; Pitch - Mating Interface: 1.25mm; Polarized to PCB: Yes; Stackable: No; Voltage (Max): 200V; PackageVersion: Rev. C, 10/2002; PackageReference: 52044-2245; PackageDescription: 22-Lead FFC Connector, Pitch 1.25 mm; Contact Position: Top; Number of Rows: 1; Orientation: Right Angle; Packing: Tray; RoHS: TRUE; Mounting Technology: Through Hole; ComponentLink1Description: Manufacturer URL; ComponentLink1URL: http://www.molex.com/molex/index.jsp; ComponentLink2Description: Datasheet; ComponentLink2URL: http://www.molex.com/webdocs/datasheets/pdf/en-us/0520442245_FFC_FPC_CONNECTORS.pdf; ComponentLink3Description: Package Specification; ComponentLink3URL: http://www.molex.com/pdm_docs/sd/520442245_sd.pdf
footprint MOLX-52044-2245 (FFC Connector, 22-Leads, Right Angle, Pitch 1.25 mm, Mated Height 5.1 mm, Through Hole)
pins: 1, 2, 3, 4, 5, 6, 7, 8, 9, 10, 11, 12, 13, 14, 15, 16, 17, 18, 19, 20, 21, 22

## 52044-2345
designator J?
1.25 mm Pitch FFC Connector, 5.1 mm Mated Height, Right Angle, Non-ZIF, Through Hole, Top Contact, 23 Circuits, -40 to 85 degC, ELV and RoHS Compliant, Tray; Manufacturer: Molex; PartNumber: 52044-2345; Circuits (Loaded): 23; Current (Max per Contact): 0.5A, 1A; Entry Angle: 90degrees Angle; Mated Height: 5.10mm; PCB Retention: None; Pitch - Mating Interface: 1.25mm; Polarized to PCB: Yes; Stackable: No; Voltage (Max): 200V; PackageVersion: Rev. C, 10/2002; PackageReference: 52044-2345; PackageDescription: 23-Lead FFC Connector, Pitch 1.25 mm; Contact Position: Top; Number of Rows: 1; Orientation: Right Angle; Packing: Tray; RoHS: TRUE; Mounting Technology: Through Hole; ComponentLink1Description: Manufacturer URL; ComponentLink1URL: http://www.molex.com/molex/index.jsp; ComponentLink2Description: Datasheet; ComponentLink2URL: http://www.molex.com/webdocs/datasheets/pdf/en-us/0520442345_FFC_FPC_CONNECTORS.pdf; ComponentLink3Description: Package Specification; ComponentLink3URL: http://www.molex.com/pdm_docs/sd/520442345_sd.pdf
footprint MOLX-52044-2345 (FFC Connector, 23-Leads, Right Angle, Pitch 1.25 mm, Mated Height 5.1 mm, Through Hole)
pins: 1, 2, 3, 4, 5, 6, 7, 8, 9, 10, 11, 12, 13, 14, 15, 16, 17, 18, 19, 20, 21, 22, 23

## 52044-2445
designator J?
1.25 mm Pitch FFC Connector, 5.1 mm Mated Height, Right Angle, Non-ZIF, Through Hole, Top Contact, 24 Circuits, -40 to 85 degC, ELV and RoHS Compliant, Tray; Manufacturer: Molex; PartNumber: 52044-2445; Circuits (Loaded): 24; Current (Max per Contact): 0.5A, 1A; Entry Angle: 90degrees Angle; Mated Height: 5.10mm; PCB Retention: None; Pitch - Mating Interface: 1.25mm; Polarized to PCB: Yes; Stackable: No; Voltage (Max): 200V; PackageVersion: Rev. C, 10/2002; PackageReference: 52044-2445; PackageDescription: 24-Lead FFC Connector, Pitch 1.25 mm; Contact Position: Top; Number of Rows: 1; Orientation: Right Angle; Packing: Tray; RoHS: TRUE; Mounting Technology: Through Hole; ComponentLink1Description: Manufacturer URL; ComponentLink1URL: http://www.molex.com/molex/index.jsp; ComponentLink2Description: Datasheet; ComponentLink2URL: http://www.molex.com/webdocs/datasheets/pdf/en-us/0520442445_FFC_FPC_CONNECTORS.pdf; ComponentLink3Description: Package Specification; ComponentLink3URL: http://www.molex.com/pdm_docs/sd/520442445_sd.pdf
footprint MOLX-52044-2445 (FFC Connector, 24-Leads, Right Angle, Pitch 1.25 mm, Mated Height 5.1 mm, Through Hole)
pins: 1, 2, 3, 4, 5, 6, 7, 8, 9, 10, 11, 12, 13, 14, 15, 16, 17, 18, 19, 20, 21, 22, 23, 24

## 52044-2545
designator J?
1.25 mm Pitch FFC Connector, 5.1 mm Mated Height, Right Angle, Non-ZIF, Through Hole, Top Contact, 25 Circuits, -40 to 85 degC, ELV and RoHS Compliant, Tray; Manufacturer: Molex; PartNumber: 52044-2545; Circuits (Loaded): 25; Current (Max per Contact): 0.5A, 1A; Entry Angle: 90degrees Angle; Mated Height: 5.10mm; PCB Retention: None; Pitch - Mating Interface: 1.25mm; Polarized to PCB: Yes; Stackable: No; Voltage (Max): 200V; PackageVersion: Rev. C, 10/2002; PackageReference: 52044-2545; PackageDescription: 25-Lead FFC Connector, Pitch 1.25 mm; Contact Position: Top; Number of Rows: 1; Orientation: Right Angle; Packing: Tray; RoHS: TRUE; Mounting Technology: Through Hole; ComponentLink1Description: Manufacturer URL; ComponentLink1URL: http://www.molex.com/molex/index.jsp; ComponentLink2Description: Datasheet; ComponentLink2URL: http://www.molex.com/webdocs/datasheets/pdf/en-us/0520442545_FFC_FPC_CONNECTORS.pdf; ComponentLink3Description: Package Specification; ComponentLink3URL: http://www.molex.com/pdm_docs/sd/520442545_sd.pdf
footprint MOLX-52044-2545 (FFC Connector, 25-Leads, Right Angle, Pitch 1.25 mm, Mated Height 5.1 mm, Through Hole)
pins: 1, 2, 3, 4, 5, 6, 7, 8, 9, 10, 11, 12, 13, 14, 15, 16, 17, 18, 19, 20, 21, 22, 23, 24, 25

## 52044-2645
designator J?
1.25 mm Pitch FFC Connector, 5.1 mm Mated Height, Right Angle, Non-ZIF, Through Hole, Top Contact, 26 Circuits, -40 to 85 degC, ELV and RoHS Compliant, Tray; Manufacturer: Molex; PartNumber: 52044-2645; Circuits (Loaded): 26; Current (Max per Contact): 0.5A, 1A; Entry Angle: 90degrees Angle; Mated Height: 5.10mm; PCB Retention: None; Pitch - Mating Interface: 1.25mm; Polarized to PCB: Yes; Stackable: No; Voltage (Max): 200V; PackageVersion: Rev. C, 10/2002; PackageReference: 52044-2645; PackageDescription: 26-Lead FFC Connector, Pitch 1.25 mm; Contact Position: Top; Number of Rows: 1; Orientation: Right Angle; Packing: Tray; RoHS: TRUE; Mounting Technology: Through Hole; ComponentLink1Description: Manufacturer URL; ComponentLink1URL: http://www.molex.com/molex/index.jsp; ComponentLink2Description: Datasheet; ComponentLink2URL: http://www.molex.com/webdocs/datasheets/pdf/en-us/0520442645_FFC_FPC_CONNECTORS.pdf; ComponentLink3Description: Package Specification; ComponentLink3URL: http://www.molex.com/pdm_docs/sd/520442645_sd.pdf
footprint MOLX-52044-2645 (FFC Connector, 26-Leads, Right Angle, Pitch 1.25 mm, Mated Height 5.1 mm, Through Hole)
pins: 1, 2, 3, 4, 5, 6, 7, 8, 9, 10, 11, 12, 13, 14, 15, 16, 17, 18, 19, 20, 21, 22, 23, 24, 25, 26

## 52044-2745
designator J?
1.25 mm Pitch FFC Connector, 5.1 mm Mated Height, Right Angle, Non-ZIF, Through Hole, Top Contact, 27 Circuits, -40 to 85 degC, ELV and RoHS Compliant, Tray; Manufacturer: Molex; PartNumber: 52044-2745; Circuits (Loaded): 27; Current (Max per Contact): 0.5A, 1A; Entry Angle: 90degrees Angle; Mated Height: 5.10mm; PCB Retention: None; Pitch - Mating Interface: 1.25mm; Polarized to PCB: Yes; Stackable: No; Voltage (Max): 200V; PackageVersion: Rev. C, 10/2002; PackageReference: 52044-2745; PackageDescription: 27-Lead FFC Connector, Pitch 1.25 mm; Contact Position: Top; Number of Rows: 1; Orientation: Right Angle; Packing: Tray; RoHS: TRUE; Mounting Technology: Through Hole; ComponentLink1Description: Manufacturer URL; ComponentLink1URL: http://www.molex.com/molex/index.jsp; ComponentLink2Description: Datasheet; ComponentLink2URL: http://www.molex.com/webdocs/datasheets/pdf/en-us/0520442745_FFC_FPC_CONNECTORS.pdf; ComponentLink3Description: Package Specification; ComponentLink3URL: http://www.molex.com/pdm_docs/sd/520442745_sd.pdf
footprint MOLX-52044-2745 (FFC Connector, 27-Leads, Right Angle, Pitch 1.25 mm, Mated Height 5.1 mm, Through Hole)
pins: 1, 2, 3, 4, 5, 6, 7, 8, 9, 10, 11, 12, 13, 14, 15, 16, 17, 18, 19, 20, 21, 22, 23, 24, 25, 26, 27

## 52044-2845
designator J?
1.25 mm Pitch FFC Connector, 5.1 mm Mated Height, Right Angle, Non-ZIF, Through Hole, Top Contact, 28 Circuits, -40 to 85 degC, ELV and RoHS Compliant, Tray; Manufacturer: Molex; PartNumber: 52044-2845; Circuits (Loaded): 28; Current (Max per Contact): 0.5A, 1A; Entry Angle: 90degrees Angle; Mated Height: 5.10mm; PCB Retention: None; Pitch - Mating Interface: 1.25mm; Polarized to PCB: Yes; Stackable: No; Voltage (Max): 200V; PackageVersion: Rev. C, 10/2002; PackageReference: 52044-2845; PackageDescription: 28-Lead FFC Connector, Pitch 1.25 mm; Contact Position: Top; Number of Rows: 1; Orientation: Right Angle; Packing: Tray; RoHS: TRUE; Mounting Technology: Through Hole; ComponentLink1Description: Manufacturer URL; ComponentLink1URL: http://www.molex.com/molex/index.jsp; ComponentLink2Description: Datasheet; ComponentLink2URL: http://www.molex.com/webdocs/datasheets/pdf/en-us/0520442845_FFC_FPC_CONNECTORS.pdf; ComponentLink3Description: Package Specification; ComponentLink3URL: http://www.molex.com/pdm_docs/sd/520442845_sd.pdf
footprint MOLX-52044-2845 (FFC Connector, 28-Leads, Right Angle, Pitch 1.25 mm, Mated Height 5.1 mm, Through Hole)
pins: 1, 2, 3, 4, 5, 6, 7, 8, 9, 10, 11, 12, 13, 14, 15, 16, 17, 18, 19, 20, 21, 22, 23, 24, 25, 26, 27, 28